# EAGLE library part WRME-FIMM_1769205132 (library WPME-FIMM)
MagI³C-FIMM Fixed Isolated MicroModule NEW Unregulated output voltage Characteristics Simplest design (no transformer design know how required) LGA-7 package for easy manufacturing and prototyping Stand alone solution (CIN and COUT integrated, no external components) Simple functional isolation for overvoltage protection, avoiding ground loops, ground shift and noise in signal path or sensor systems Industrial standard package and pin configuration Low conducted and radiated EMI (compliant to EN55032 class B / CISPR-32) UL62368 approval 3 solder cycles supported Applications Data acquisition Test and measurement systems Interface and microcontroller supply Industrial control <https://www.we-online.com/catalog/media/o690926v209%201769205132_multi-parts.jpg> Details see: www.we-online.com/catalog/MAGIC-FIMM <www.we-online.com/catalog/MAGIC-FIMM/?utm_source=eagle_model&utm_medium=description_link&utm_campaign=eisos_eagle> Updated by Ella, Wu 2022-07-22 2022 (C) Wurth Elektronik
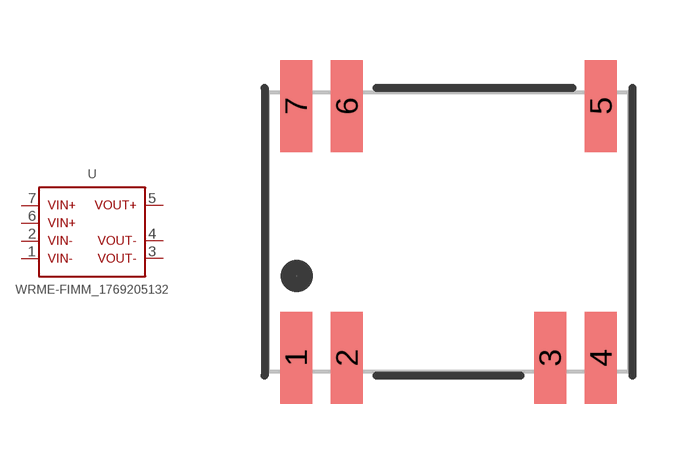
[diagram p0: symbol with the pads of WRME-FIMM_1769205132; footprint WRME-FIMM_1769205132]

Designator prefix U

## WRME-FIMM_1769205132 (DATASHEET-URL: https://www.we-online.com/redexpert/spec/1769205132?ae; HEIGHT: 3.1mm; LENGTH: 9mm; MOUNT: SMT; PART-NUMBER: 1769205132; PO: 1W; SIZE: LGA-7; VALUE: 4.5-5.5Vin, 5Vout; VISO: 3000V; VOLTAGE-INPUT: 4.5-5.5V; VOLTAGE-OUTPUT: 5V; WIDTH: 7mm)  [WRME-FIMM_1769205132]
1  1  in
2  2  in
3  3  out
4  4  out
5  5  out
6  6  in
7  7  in

## Footprint WRME-FIMM_1769205132 (pad centres in mm)
MagI³C-FIMM Fixed Isolated MicroModule Size :LGA-7, SMT, 7pins LXWXH = 9X7X3.1mm
smd 0.8 x 2.3: 1 -3.81,-3.15; 2 -2.54,-3.15; 3 2.54,-3.15; 4 3.81,-3.15; 5 3.81,3.15; 6 -2.54,3.15; 7 -3.81,3.15